# EAGLE library part 404-51040-5X (library con-ept-one27)
ept One27 female right angled 40pins 1.27 mm pitch SMT Board-to-Board Connector System for parallel, horizontal and perpendicular PCB connections as well as cable-to-board connections. For mezzanine board-to-board connections from 8mm up to 13.8mm. Available with 12 to 80 pins. www.ept.de
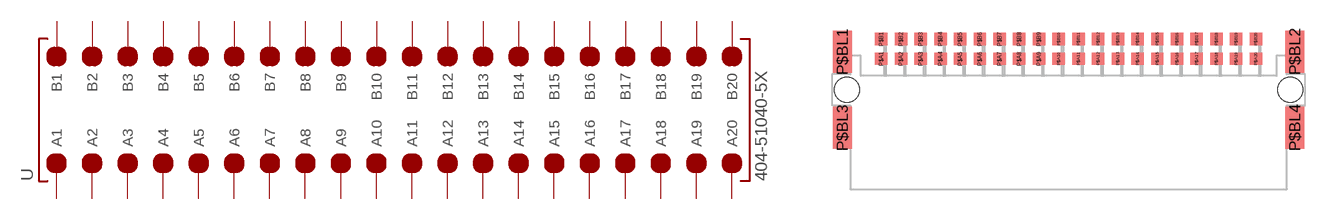
[diagram p32: symbol with the pads of 404-51040-5X; footprint 404-51040-5X]

Designator prefix -

## 404-51040-5X  [404-51040-5X]
P$A1  A1  pas
P$A2  A2  pas
P$A3  A3  pas
P$A4  A4  pas
P$A5  A5  pas
P$A6  A6  pas
P$A7  A7  pas
P$A8  A8  pas
P$A9  A9  pas
P$A10  A10  pas
P$A11  A11  pas
P$A12  A12  pas
P$A13  A13  pas
P$A14  A14  pas
P$A15  A15  pas
P$A16  A16  pas
P$A17  A17  pas
P$A18  A18  pas
P$A19  A19  pas
P$A20  A20  pas
P$B1  B1  pas
P$B2  B2  pas
P$B3  B3  pas
P$B4  B4  pas
P$B5  B5  pas
P$B6  B6  pas
P$B7  B7  pas
P$B8  B8  pas
P$B9  B9  pas
P$B10  B10  pas
P$B11  B11  pas
P$B12  B12  pas
P$B13  B13  pas
P$B14  B14  pas
P$B15  B15  pas
P$B16  B16  pas
P$B17  B17  pas
P$B18  B18  pas
P$B19  B19  pas
P$B20  B20  pas

## Footprint 404-51040-5X (pad centres in mm)
ept One27 female right angled 40pins 1.27 mm pitch SMT Board-to-Board Connector System for parallel, horizontal and perpendicular PCB connections as well as cable-to-board connections. For mezzanine board-to-board connections from 8mm up to 13.8mm. Available with 12 to 80 pins. www.ept.de
smd 0.8 x 0.8: P$A1 -12.065,3.27; P$A2 -10.795,3.27; P$A3 -9.525,3.27; P$A4 -8.255,3.27; P$A5 -6.985,3.27; P$A6 -5.715,3.27; P$A7 -4.445,3.27; P$A8 -3.175,3.27; P$A9 -1.905,3.27; P$A10 -0.635,3.27; P$A11 0.635,3.27; P$A12 1.905,3.27; P$A13 3.175,3.27; P$A14 4.445,3.27; P$A15 5.715,3.27; P$A16 6.985,3.27; P$A17 8.255,3.27; P$A18 9.525,3.27; P$A19 10.795,3.27; P$A20 12.065,3.27; P$B1 -12.065,4.54; P$B2 -10.795,4.54; P$B3 -9.525,4.54; P$B4 -8.255,4.54; P$B5 -6.985,4.54; P$B6 -5.715,4.54; P$B7 -4.445,4.54; P$B8 -3.175,4.54; P$B9 -1.905,4.54; P$B10 -0.635,4.54; P$B11 0.635,4.54; P$B12 1.905,4.54; P$B13 3.175,4.54; P$B14 4.445,4.54; P$B15 5.715,4.54; P$B16 6.985,4.54; P$B17 8.255,4.54; P$B18 9.525,4.54; P$B19 10.795,4.54; P$B20 12.065,4.54
smd 1.2 x 2.7: P$BL1 -14.575,3.72; P$BL2 14.575,3.72; P$BL3 -14.575,-1.18; P$BL4 14.575,-1.18
hole 1.6 at -14.275,1.27
hole 1.6 at 14.275,1.27